# Altium schematic symbol library SCH - POWER - SWITCHMODE - TI TPS65100_PWP_24.SchLib: 1 symbol
Pins are listed as number, name and electrical type; pins without a type are passive.

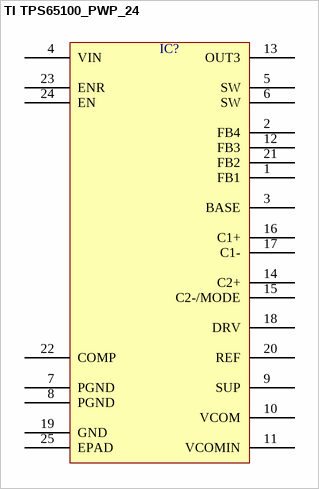
[diagram p0: symbol TI TPS65100_PWP_24]

## TI TPS65100_PWP_24
designator IC?  (value not drawn)
pins: 1 FB1, 2 FB4, 3 BASE, 4 VIN, 5 SW, 6 SW, 7 PGND, 8 PGND, 9 SUP, 10 VCOM, 11 VCOMIN, 12 FB3, 13 OUT3, 14 C2+, 15 C2-/MODE, 16 C1+, 17 C1-, 18 DRV, 19 GND, 20 REF, 21 FB2, 22 COMP, 23 ENR, 24 EN, 25 EPAD